# EAGLE library part DUAL-INLINE-8 (library jim_muppet_parts)
Dual In Line / Socket
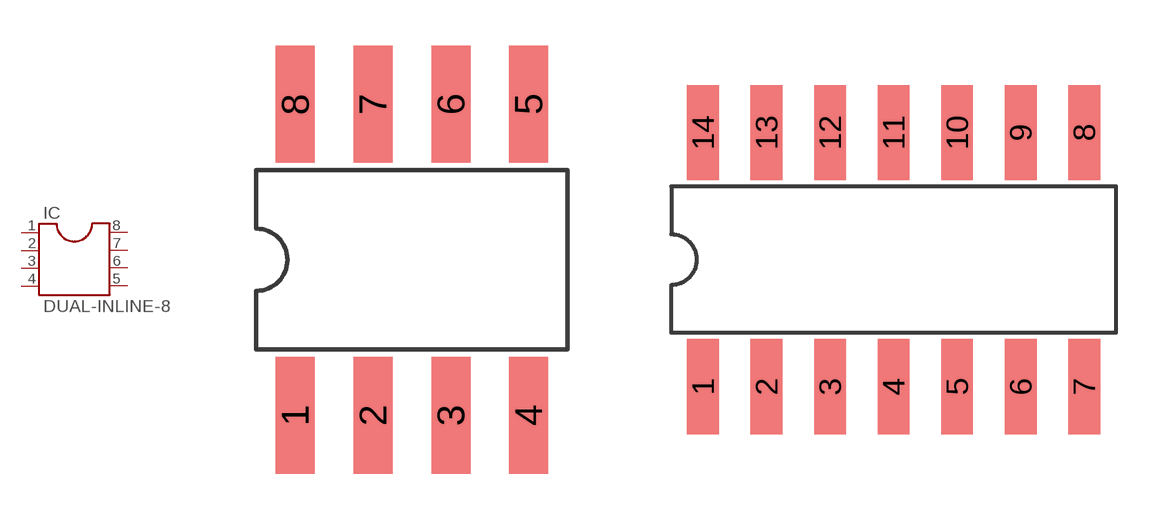
[diagram p5: symbol with the pads of DIL08; footprints DIL08, DIL14]

Designator prefix IC

## DUAL-INLINE-8DIL08-2  [DIL08]
1  1  pas
2  2  pas
3  3  pas
4  4  pas
5  5  pas
6  6  pas
7  7  pas
8  8  pas

## DUAL-INLINE-8  [DIL14]

## DUAL-INLINE-8THRUHOLE8  [DIL08-THRUHOLE]
P$1  1  pas
P$2  2  pas
P$3  3  pas
P$4  4  pas
P$5  5  pas
P$6  6  pas
P$7  7  pas
P$8  8  pas

## Footprint DIL08 (pad centres in mm)
Dual In Line Package
smd 1.27 x 3.81: 1 -3.81,-5.08; 2 -1.27,-5.08; 3 1.27,-5.08; 4 3.81,-5.08; 5 3.81,5.08; 6 1.27,5.08; 7 -1.27,5.08; 8 -3.81,5.08

## Footprint DIL14 (pad centres in mm)
Dual In Line Package
smd 1.27 x 3.81: 1 -3.81,-5.08; 2 -1.27,-5.08; 3 1.27,-5.08; 4 3.81,-5.08; 5 6.35,-5.08; 6 8.89,-5.08; 7 11.43,-5.08; 8 11.43,5.08; 9 8.89,5.08; 10 6.35,5.08; 11 3.81,5.08; 12 1.27,5.08; 13 -1.27,5.08; 14 -3.81,5.08

## Footprint DIL08-THRUHOLE (pad centres in mm)
Dual In Line Package
drill 1 square: P$1 -3.81,-2.54; P$2 -1.27,-2.54; P$3 1.27,-2.54; P$4 3.81,-2.54; P$5 3.81,2.54; P$6 1.27,2.54; P$7 -1.27,2.54; P$8 -3.81,2.54